# Altium schematic symbol library PLT10HH9016R0PNL.SchLib: 1 symbol
Pins are listed as number, name and electrical type; pins without a type are passive.

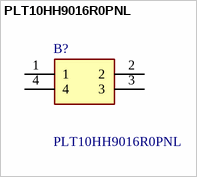
[diagram p0: symbol PLT10HH9016R0PNL]

## PLT10HH9016R0PNL
designator B?
Common Mode Chokes / Filters 900ohms 6A 100volts CM Impd 14uH min; Manufacturer_Name: Murata Electronics; Geometry.Height: 9.4mm; Farnell Part Number: *; Farnell Price/Stock: *; Manufacturer_Part_Number: PLT10HH9016R0PNL; Datasheet Link: https://www.murata.com/products/productdata/8796754935838/QFLB9101.pdf?1558409412000
footprint PLT10HH9016R0PNL
pins: 1, 2, 3, 4